# Altium schematic symbol library LT1920.Schlib: 1 symbol
Pins are listed as number, name and electrical type; pins without a type are passive.

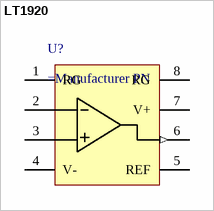
[diagram p0: symbol LT1920]

## LT1920
designator U?
Instrumentation Op Amp, Single
pins: 1 RG, 2 -IN, 3 +IN, 4 V- (power), 5 REF, 6 OUT (out), 7 V+ (power), 8 RG